# EAGLE library part ACS712 (library allegro-micro)
Linear Current Sensor Fully Integrated, Hall Effect-Based 2.1 kVRMS Voltage Isolation and a Low-Resistance Current Conductor
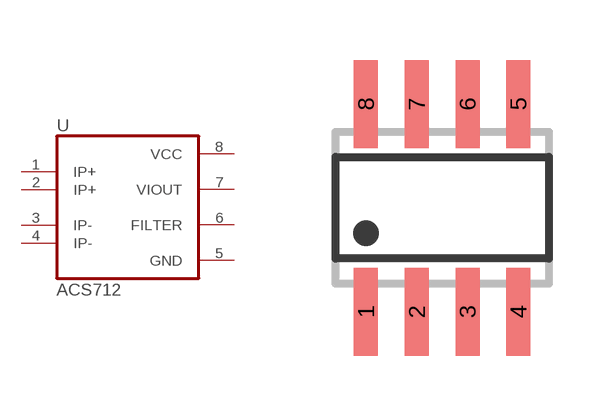
[diagram p1: symbol with the pads of SO08; footprint SO08]

Designator prefix U

## ACS712LC  [SO08]
1  IP+  pas
2  IP+  pas
3  IP-  pas
4  IP-  pas
5  GND  pwr
6  FILTER  pas
7  VIOUT  out
8  VCC  pwr

## Footprint SO08 (pad centres in mm)
SMALL OUTLINE INTEGRATED CIRCUIT body 3.9 mm/JEDEC MS-012AA
smd 0.6 x 2.2: 1 -1.905,-2.6; 2 -0.635,-2.6; 3 0.635,-2.6; 4 1.905,-2.6; 5 1.905,2.6; 6 0.635,2.6; 7 -0.635,2.6; 8 -1.905,2.6